# Altium footprint library Conn_Molex_90120-0764_eec_0.PcbLib: 1 footprints
Each footprint in its own frame and in the unit in brackets; x right, y up, seen from the top. Pads: shape width x height; smd on the part's side, far side on the other; paste and mask are expansions set on the pad; w line width, h text height; cw(c..) or ccw(c..) is an arc to the next point about the centre after c.
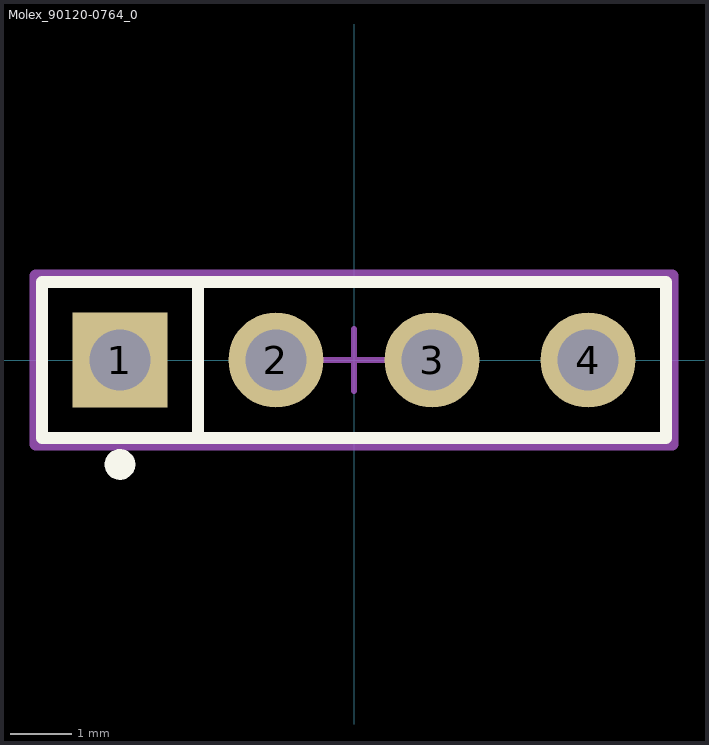
[diagram p0: the footprint, top view; thin cyan lines are the x and y axes]

## Molex_90120-0764_0 [mm]
pads (4):
  rect 1.55x1.55 hole 1 paste-1000 mask+0: 1(-3.81,0)
  round 1.55 hole 1 paste-1000 mask+0: 2(-1.27,0) 3(1.27,0) 4(3.81,0)
Top Overlay:
  circle w0.25: c-3.81,-1.7 r0.125
  lines w0.2: -2.54,-1.27 -2.54,1.27 ; -5.08,-1.27 5.08,-1.27 5.08,1.27 -5.08,1.27 -5.08,-1.27
Mechanical 10:
  lines w0.2: -5.18,-1.37 5.18,-1.37 5.18,1.37 -5.18,1.37 -5.18,-1.37
  text ".Designator" at 0,0 h1
Mechanical 12:
  lines w0.15: -5.08,-1.27 5.08,-1.27 5.08,1.27 -5.08,1.27 -5.08,-1.27
Mechanical 15:
  lines w0.1: -0.5,0 0.5,0 ; 0,-0.5 0,0.5
  lines w0.2: -5.18,-1.37 5.18,-1.37 5.18,1.37 -5.18,1.37 -5.18,-1.37
3D body "3dmodel.step": height 0.25, standoff 0, extent -5.18,-1.37 5.18,1.37